# Altium footprint library TO.PcbLib: 20 footprints (part 1 of 2)
Each footprint in its own frame and in the unit in brackets; x right, y up, seen from the top. Pads: shape width x height; smd on the part's side, far side on the other; paste and mask are expansions set on the pad; w line width, h text height; cw(c..) or ccw(c..) is an arc to the next point about the centre after c.
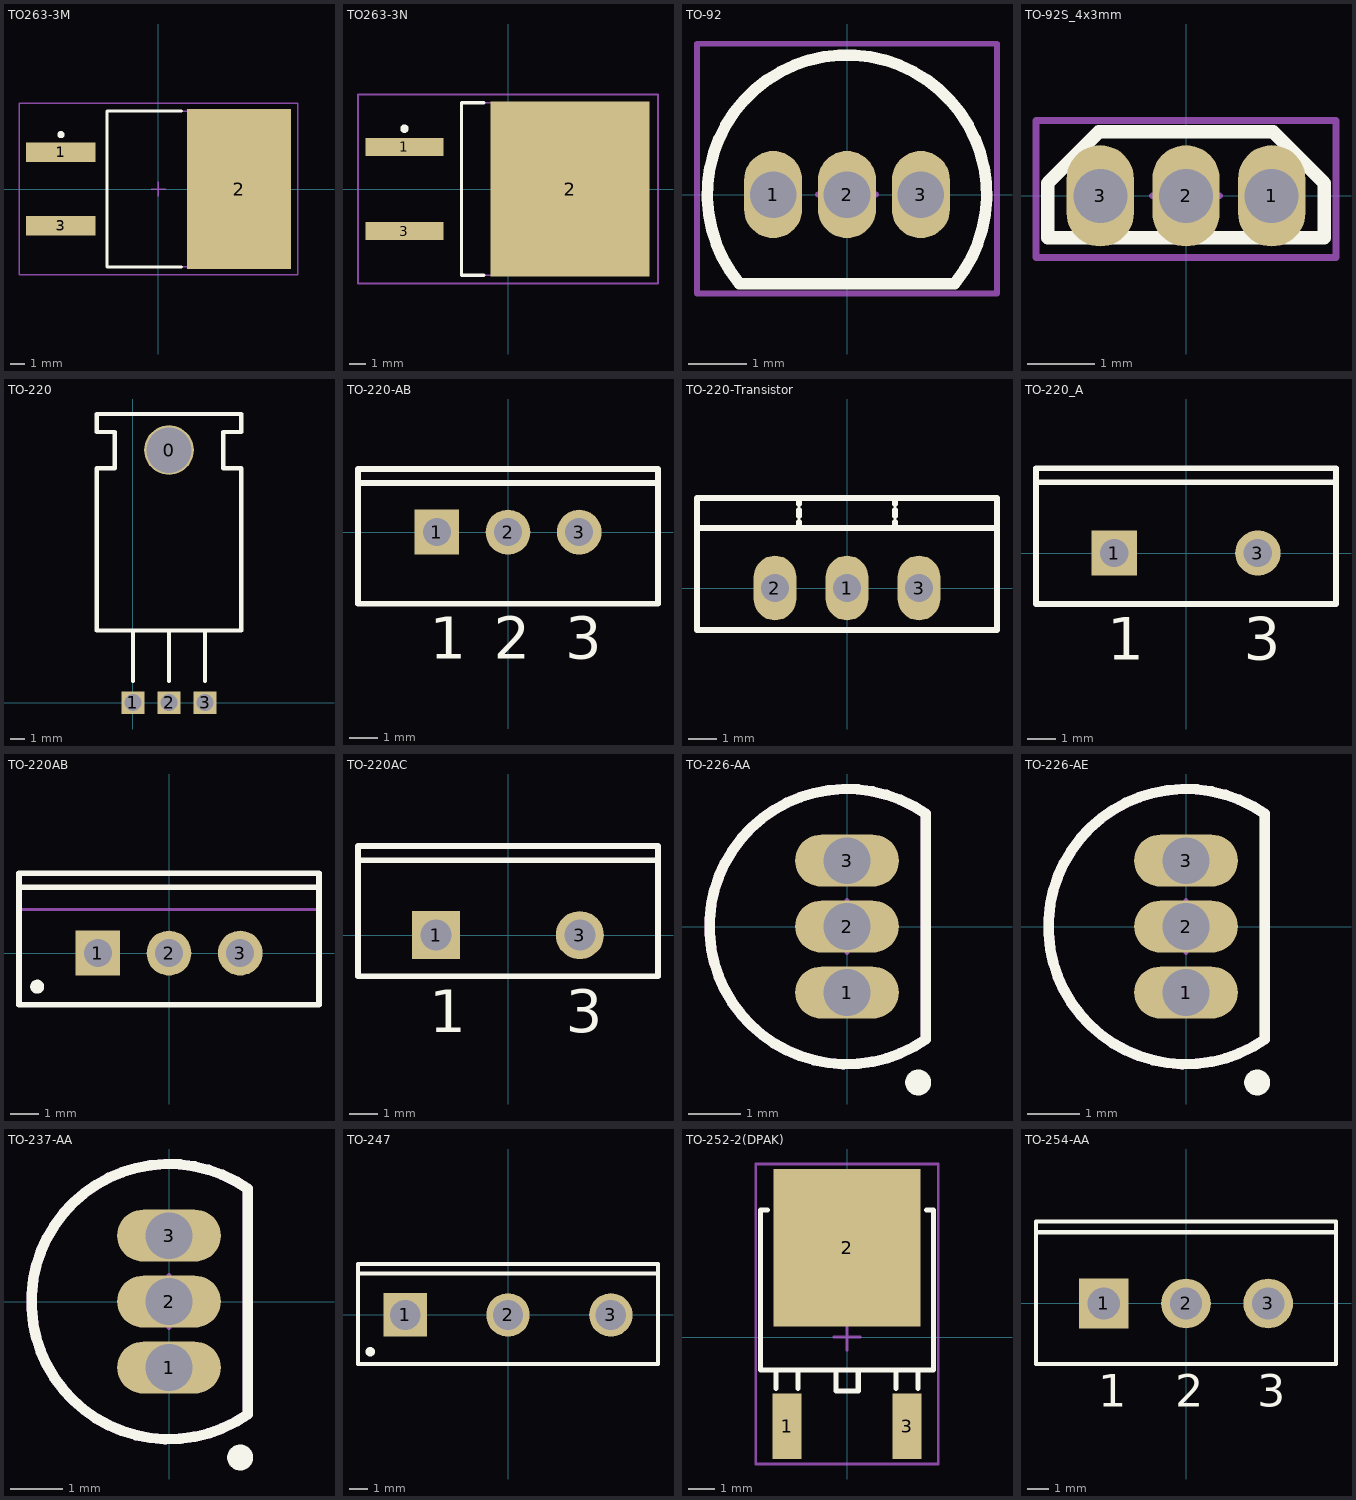
[diagram p0: the footprints below, top view; thin cyan lines are the x and y axes]

## TO263-3M [mm] "TO, 3-Pads, Body 11.4x10.8mm (max), IPC Low Density"
height 4.7
pads (3):
  rect 4.8x1.35 smd: 1(-6.75,2.54) 3(-6.75,-2.54)
  rect 7.2x11.05 smd: 2(5.6,0)
Top Overlay:
  circle w0.25: c-6.75,3.765 r0.125
  lines w0.2: 1.6,-5.4 -3.55,-5.4 -3.55,5.4 1.6,5.4
Mechanical 13:
  lines w0.1: -3.55,-5.4 -3.55,5.4 7.85,5.4 7.85,-5.4 -3.55,-5.4
Mechanical 15:
  lines w0.1: -0.5,0 0.5,0 ; 0,-0.5 0,0.5 ; -9.65,-5.95 -9.65,5.95 9.65,5.95 9.65,-5.95 -9.65,-5.95
3D body: height 4.7, standoff 1.2, extent -3.55,-5.4 7.85,5.4

## TO263-3N [mm]
height 4.6
pads (3):
  rect 4.7x1.1 smd: 1(-6.25,2.54) 3(-6.25,-2.54)
  rect 9.6x10.55 smd: 2(3.75,0)
Top Overlay:
  circle w0.25: c-6.25,3.64 r0.125
  lines w0.2: -1.45,-5.2 -2.8,-5.2 -2.8,5.2 -1.45,5.2
Mechanical 13:
  lines w0.1: -2.8,-5.2 6.55,-5.2 6.55,5.2 -2.8,5.2 -2.8,-5.2
Mechanical 15:
  lines w0.1: -0.5,0 0.5,0 ; 0,-0.5 0,0.5 ; -9.05,-5.7 9.05,-5.7 9.05,5.7 -9.05,5.7 -9.05,-5.7
3D body: height 4.6, standoff 0.45, extent -2.8,-5.2 6.55,5.2

## TO-92 [mm]
pads (3):
  oval 1x1.5 hole 0.8: 1(-1.27,0) 2(0,0) 3(1.27,0)
Top Overlay:
  lines w0.2: 1.849,-1.53 ccw(c0,0) -1.849,-1.53 0,-1.53 1.849,-1.53 ; 1.849,-1.53 1.849,-1.53
Mechanical 15:
  lines w0.1: -0.5,0 0.5,0 ; 0,-0.5 0,0.5 ; -2.578,-1.702 2.578,-1.702 2.578,2.591 -2.578,2.591 -2.578,-1.702
3D body "TO-92A.STEP": height 5.5, standoff -5.5, extent -2.4,-1.53 2.4,2.4

## TO-92S_4x3mm [mm]
pads (3):
  oval 1x1.5 hole 0.8: 1(1.27,0) 2(0,0) 3(-1.27,0)
Top Overlay:
  lines w0.2: -2.05,-0.62 -2.05,0.19 -1.29,0.95 1.29,0.95 2.05,0.19 2.05,-0.62 -2.05,-0.62
Mechanical 15:
  lines w0.1: -0.5,0 0,0 ; 0,-0.5 0,0 ; 0,0.5 0,0 ; 0.5,0 0,0 ; -2.222,-0.914 -2.222,1.118 2.222,1.118 2.222,-0.914 -2.222,-0.914
3D body "TO-92ua.STEP": height 3.3, standoff -2.96, extent -2.085,-0.488 2.085,1.092

## TO-220 [mm]
pads (4):
  round 3.5 hole 3.2: 0(2.54,17.78)
  rect 1.6x1.6 hole 1.2: 1(0,0) 2(2.54,0) 3(5.08,0)
Top Overlay:
  lines w0.305: 0,1.524 0,5.08 ; 2.54,1.524 2.54,5.08 ; 5.08,1.524 5.08,5.08 ; -2.54,5.08 -2.54,16.51 -1.27,16.51 -1.27,19.05 -2.54,19.05 -2.54,20.32 7.62,20.32 7.62,19.05 6.35,19.05 6.35,16.51 7.62,16.51 7.62,5.08 -2.54,5.08

## TO-220-AB [mm] "TO, Thru-Hole, Vertical, Heatsink Mounted; 3 In-Line Leads; Pitch 2.54 mm"
height 19.1
pads (3):
  rect 1.6x1.6 hole 1: 1(-2.54,0)
  round 1.6 hole 1: 2(0,0) 3(2.54,0)
Top Overlay:
  lines w0.2: -5.35,1.75 5.35,1.75 ; -5.35,-2.55 5.35,-2.55 5.35,2.25 -5.35,2.25 -5.35,-2.55
  text "1" at -2.79,-4.525 h1.5
  text "2" at -0.5,-4.525 h1.5
  text "3" at 2.04,-4.525 h1.5

## TO-220-Transistor [mm]
pads (3):
  oval 1.5x2.286 hole 1: 1(0,0) 2(-2.54,0) 3(2.54,0)
Top Overlay:
  lines w0.2: -1.693,2.117 -1.693,2.328 ; -1.693,2.54 -1.693,2.752 ; -1.693,2.963 -1.693,3.175 ; 1.693,2.117 1.693,2.328 ; 1.693,2.54 1.693,2.752 ; 1.693,2.963 1.693,3.175 ; -5.292,2.117 -5.292,3.175 5.292,3.175 5.292,2.117 ; -5.292,2.117 -5.292,-1.482 5.292,-1.482 5.292,2.117 ; -5.292,2.117 5.292,2.117

## TO-220_A [mm] "TO, Thru-Hole, Vertical, Heatsink Mounted; 3 In-Line Leads (1 Absent); Pitch 2.54 mm"
height 19.3
pads (2):
  rect 1.6x1.6 hole 1: 1(-2.54,0)
  round 1.6 hole 1: 3(2.54,0)
Top Overlay:
  lines w0.2: -5.3,2.5 5.3,2.5 ; -5.3,-1.8 -5.3,3 5.3,3 5.3,-1.8 -5.3,-1.8
  text "1" at -2.79,-3.775 h1.5
  text "3" at 2.04,-3.775 h1.5

## TO-220AB [mm] "TO, Thru-Hole, Vertical, Heatsink Mounted; 3 In-Line Leads; Pitch 2.54 mm"
height 19.3
pads (3):
  rect 1.6x1.6 hole 1: 1(-2.54,0)
  round 1.6 hole 1: 2(0,0) 3(2.54,0)
Top Overlay:
  circle w0.25: c-4.7,-1.2 r0.125
  lines w0.2: -5.35,2.35 5.35,2.35 ; -5.35,-1.85 -5.35,2.85 5.35,2.85 5.35,-1.85 -5.35,-1.85
Mechanical 13:
  lines w0.1: -5.35,1.55 5.35,1.55 ; -5.35,-1.85 5.35,-1.85 5.35,2.85 -5.35,2.85 -5.35,-1.85
Mechanical 15:
  lines w0.1: -0.5,0 0.5,0 ; 0,-0.5 0,0.5
3D body: height 12.9, standoff 4, extent -5.4,-1.9 5.4,2.9
3D body: height 19.3, standoff 12.9, extent -5.349,1.551 5.349,2.849

## TO-220AC [mm] "TO, Thru-Hole, Vertical, Heatsink Mounted; 3 In-Line Leads (1 Absent); Pitch 2.54 mm"
height 19.2
pads (2):
  rect 1.7x1.7 hole 1.1: 1(-2.54,0)
  round 1.7 hole 1.1: 3(2.54,0)
Top Overlay:
  lines w0.2: -5.3,2.65 5.3,2.65 ; -5.3,-1.45 -5.3,3.15 5.3,3.15 5.3,-1.45 -5.3,-1.45
  text "3" at 2.04,-3.425 h1.5
  text "1" at -2.79,-3.425 h1.5

## TO-226-AA [mm] "TO, Flat Index; 3 In-Line, Axial Leads; Body Dia. 4.8mm; Leads 0.55 x 0.51 mm (max)"
height 5.33
pads (3):
  oval 2x1 hole 0.9: 1(0,-1.27) 2(0,0) 3(0,1.27)
Top Overlay:
  circle w0.25: c1.371,-3.003 r0.125
  lines w0.2: 1.52,-2.171 cw(c0,0) 1.52,2.171 1.52,-2.171
Mechanical 13:
  lines w0.2: 1.52,-2.171 cw(c0,0) 1.52,2.171 1.52,-2.171
Mechanical 15:
  lines w0.1: -0.5,0 0.5,0 ; 0,-0.5 0,0.5
3D body: height 5.33, standoff 0, extent -2.651,-2.661 1.52,2.661

## TO-226-AE [mm] "TO, Flat Index; 3 In-Line, Axial Leads; Body Dia. 4.8mm; Leads 0.55 x 0.51 mm (max)"
height 7.87
pads (3):
  oval 2x1 hole 0.9: 1(0,-1.27) 2(0,0) 3(0,1.27)
Top Overlay:
  circle w0.25: c1.371,-3.003 r0.125
  lines w0.2: 1.52,-2.171 cw(c0,0) 1.52,2.171 1.52,-2.171
Mechanical 13:
  lines w0.2: 1.52,-2.171 cw(c0,0) 1.52,2.171 1.52,-2.171
Mechanical 15:
  lines w0.1: -0.5,0 0.5,0 ; 0,-0.5 0,0.5
3D body: height 7.87, standoff 0, extent -2.651,-2.661 1.52,2.661

## TO-237-AA [mm] "TO, Flat Index; 3 In-Line, Axial Leads; Body Dia. 4.8mm; Lead Dia. 0.56 mm (max)"
height 7.11
pads (3):
  oval 2x1 hole 0.9: 1(0,-1.27) 2(0,0) 3(0,1.27)
Top Overlay:
  circle w0.25: c1.371,-3.003 r0.125
  lines w0.2: 1.52,-2.171 cw(c0,0) 1.52,2.171 1.52,-2.171
Mechanical 13:
  lines w0.2: 1.52,-2.171 cw(c0,0) 1.52,2.171 1.52,-2.171
Mechanical 15:
  lines w0.1: -0.5,0 0.5,0 ; 0,-0.5 0,0.5
3D body: height 7.11, standoff 0, extent -2.651,-2.661 1.52,2.661

## TO-247 [mm] "SIP with Mounting Hole; 3 Leads; Body 20 x 15.6 x 5 mm (typ); Pitch 5.45 mm"
height 24.6
pads (3):
  rect 2.3x2.3 hole 1.6: 1(-5.45,0)
  round 2.3 hole 1.6: 2(0,0) 3(5.45,0)
Top Overlay:
  circle w0.25: c-7.3,-1.95 r0.125
  lines w0.2: -7.95,2.2 7.95,2.2 ; -7.95,-2.6 7.95,-2.6 7.95,2.7 -7.95,2.7 -7.95,-2.6
Mechanical 13:
  lines w0.1: -7.95,-2.6 7.95,-2.6 7.95,2.7 -7.95,2.7 -7.95,-2.6
Mechanical 15:
  lines w0.1: -0.5,0 0.5,0 ; 0,-0.5 0,0.5
3D body: height 24.6, standoff 3.7, extent -7.949,-2.599 7.949,2.699

## TO-252-2(DPAK) [mm] "测试ok"
pads (3):
  rect 1.1x2.5 smd: 1(-2.286,-3.407) 3(2.286,-3.407)
  rect 5.6x6 smd: 2(0,3.407)
Top Overlay:
  lines w0.2: -3.035,4.843 -3.3,4.843 -3.3,-1.257 3.3,-1.257 3.3,4.843 3.035,4.843 ; -2.706,-1.952 -2.706,-1.257 ; -1.866,-1.952 -1.866,-1.257 ; -0.416,-1.257 -0.416,-2.057 0.424,-2.057 0.424,-1.257 ; 1.866,-1.952 1.866,-1.257 ; 2.706,-1.952 2.706,-1.257
Mechanical 15:
  lines w0.1: -0.5,0 0.5,0 ; 0,-0.5 0,0.5 ; -3.48,-4.839 3.48,-4.839 3.48,6.591 -3.48,6.591 -3.48,-4.839
3D body "TO-252-2(DPAK).STEP": height 2.42, standoff 0.02, extent -3.367,-4.14 3.367,5.96

## TO-254-AA [mm] "TO, Thru-Hole, Vertical, Heatsink Mounted; 3 In-Line Leads; Pitch 3.81 mm"
height 20.3
pads (3):
  rect 2.3x2.3 hole 1.5: 1(-3.81,0)
  round 2.3 hole 1.5: 2(0,0) 3(3.81,0)
Top Overlay:
  lines w0.2: -6.95,3.3 6.95,3.3 ; -6.95,-2.8 -6.95,3.8 6.95,3.8 6.95,-2.8 -6.95,-2.8
  text "3" at 3.31,-4.775 h1.5
  text "2" at -0.5,-4.775 h1.5
  text "1" at -4.06,-4.775 h1.5